# EAGLE library part USB3140-30-0230-1-C_REVE1 (library USB3140-30-0230-1-C_REVE1)
USB - micro B USB 2.0 Receptacle Connector 5 Position Surface Mount Check prices <https://pricing.snapeda.com/parts/USB3140-30-0230-1-C/Global%20Connector%20Technology/view-part?ref=eda>
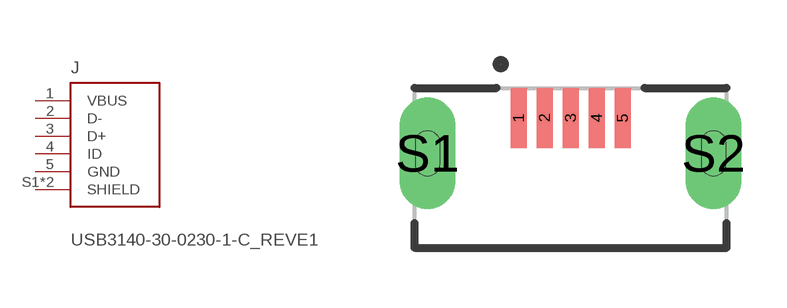
[diagram p0: symbol with the pads of GCT_USB3140-30-0230-1-C_REVE1; footprint GCT_USB3140-30-0230-1-C_REVE1]

Designator prefix J

## USB3140-30-0230-1-C_REVE1 (AVAILABILITY: Bad; DESCRIPTION: USB - micro B USB 2.0 Receptacle Connector 5 Position Surface Mount, Through Hole; MF: Global Connector Technology; MP: USB3140-30-0230-1-C; PACKAGE: None; PRICE: None)  [GCT_USB3140-30-0230-1-C_REVE1]
1  VBUS  pwr
2  D-
3  D+
4  ID  pas
5  GND  pwr
S1  SHIELD  pas
S2  SHIELD  pas

## Footprint GCT_USB3140-30-0230-1-C_REVE1 (pad centres in mm)
smd 0.4 x 1.5: 1 -1.3,1.25; 2 -0.65,1.25; 3 0,1.25; 4 0.65,1.25; 5 1.3,1.25
drill 0.6 pad 1.4 long: S1 -3.575,0.36; S2 3.575,0.36